# EAGLE library part MINI_W5500 (library ethernet-mikroavr)
MINI ETHERNET W5500, CREATE BY MIKROAVR.COM
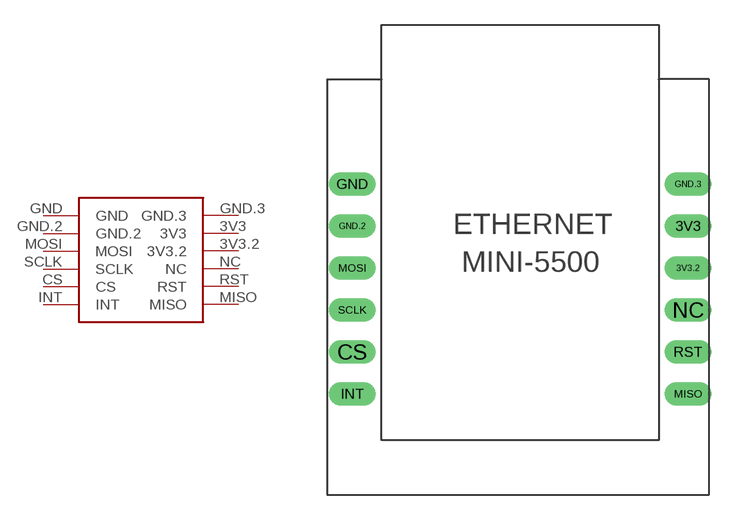
[diagram p1: symbol with the pads of MINI_W5500; footprint MINI_W5500]

Designator prefix -

## MINI_W5500  [MINI_W5500]
3V3  3V3
3V3.2  3V3.2
CS  CS
GND  GND
GND.2  GND.2
GND.3  GND.3
INT  INT
MISO  MISO
MOSI  MOSI
NC  NC
RST  RST
SCLK  SCLK

## Footprint MINI_W5500 (pad centres in mm)
AMP QUICK CONNECTOR
drill 0.914 long: 3V3 21.844,-8.89; 3V3.2 21.844,-11.43; CS 1.524,-16.51; GND 1.524,-6.35; GND.2 1.524,-8.89; GND.3 21.844,-6.35; INT 1.524,-19.05; MISO 21.844,-19.05; MOSI 1.524,-11.43; NC 21.844,-13.97; RST 21.844,-16.51; SCLK 1.524,-13.97